# Altium integrated library STM32H7_PCI_CARD.IntLib: 56 symbols
Pins are listed as number, name and electrical type; pins without a type are passive.

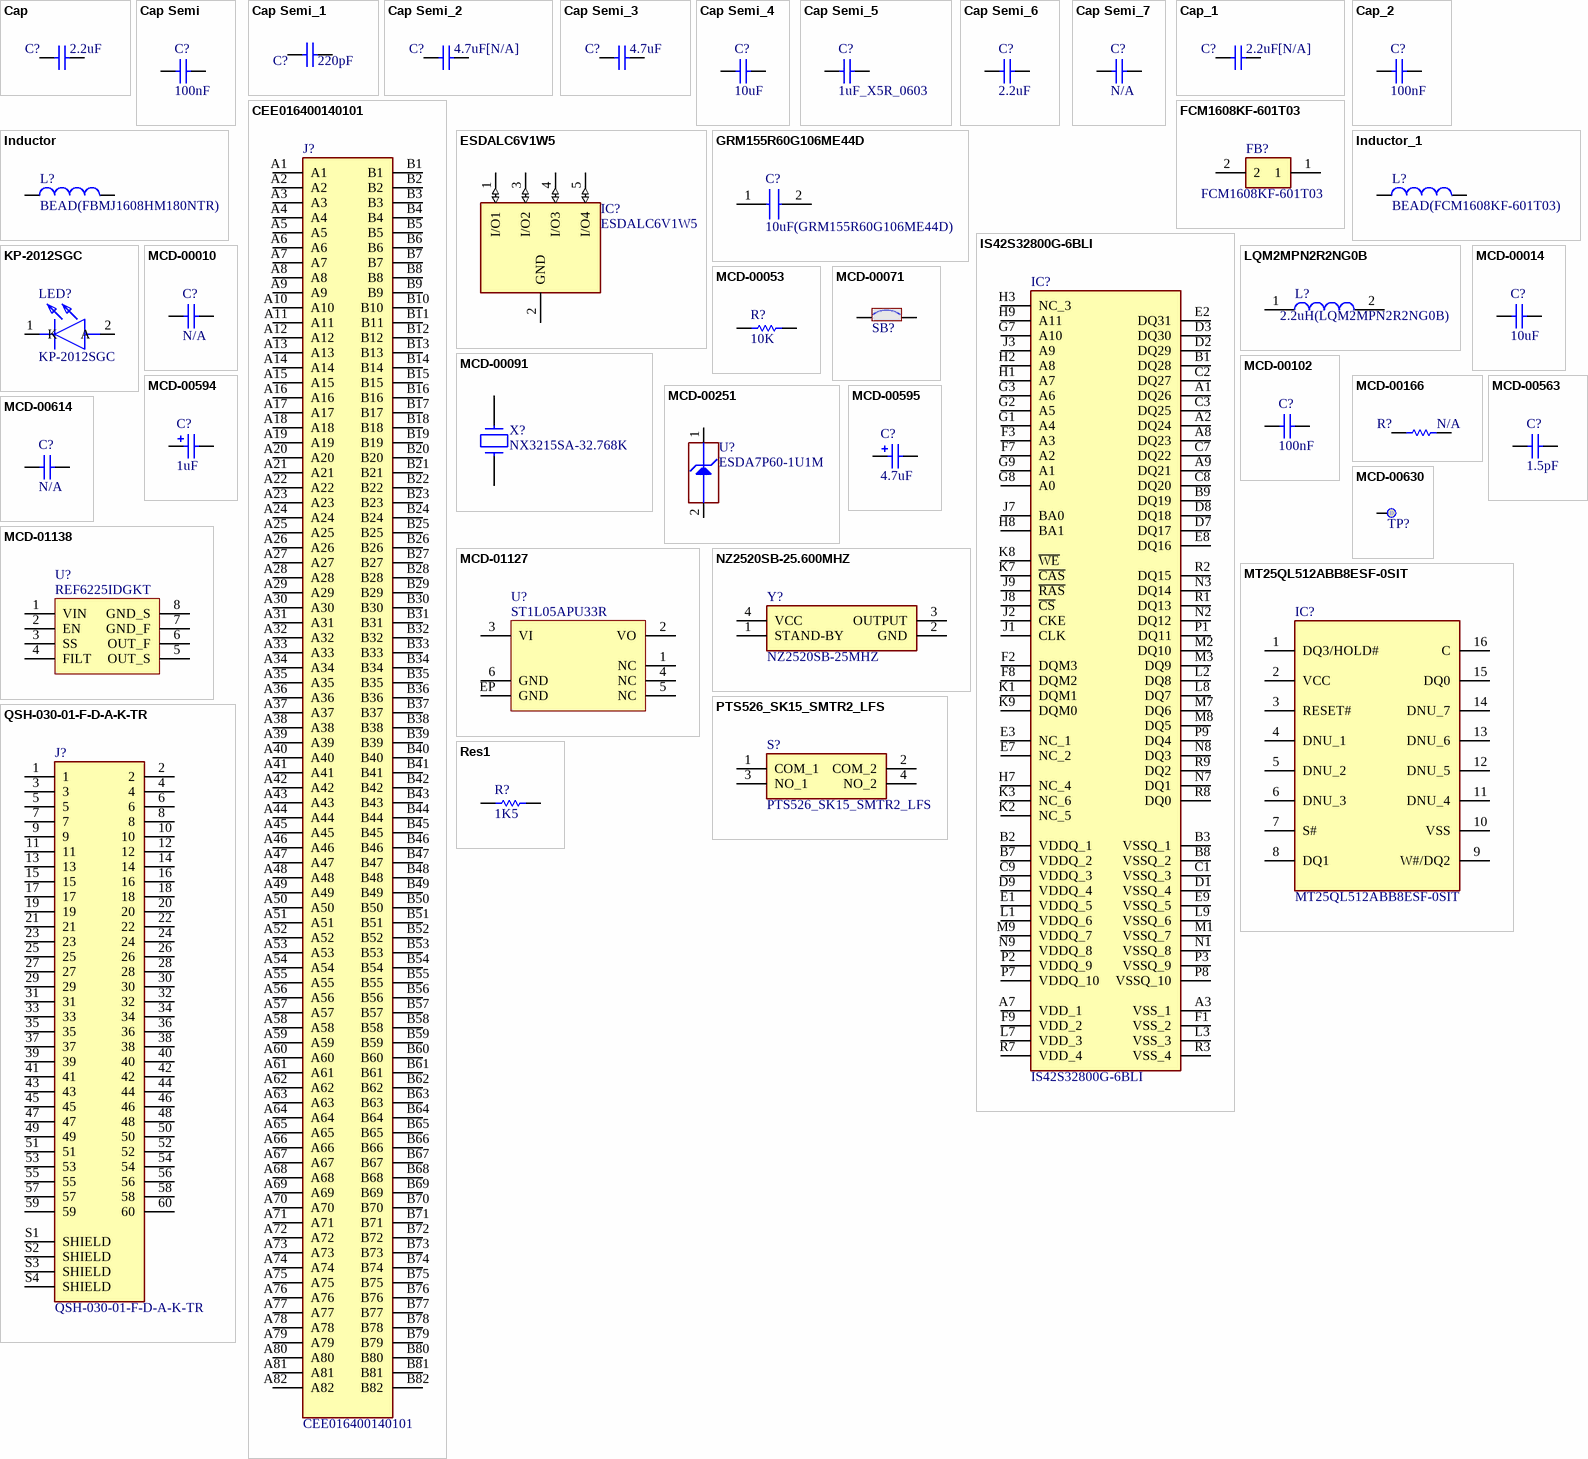
[diagram p0: symbols Cap to Res1]

## Cap
designator C?, comment 2.2uF
Capacitor; Value: 10nF; Published: 8-Jun-2000; Revision: July-2002: Re-released for DXP Platform.; Publisher: Altium Limited
simulation model CAP (Capacitor)
signal-integrity model Cap
footprint 0603C (Footprint not found)
footprint 1206C (Footprint not found)
footprint C0603
pins: 1, 2

## Cap Semi
designator C?, comment 100nF
Capacitor (Semiconductor SIM Model); Published: 8-Jun-2000; LatestRevisionDate: 29-May-2009; LatestRevisionNote: IPC-7351 Footprint Added.; PackageReference: C1206; Publisher: Altium Limited; PackageDescription: Chip Capacitor; Value: 100nF
footprint C1206 (Chip Capacitor, Body 3.2x1.6mm, IPC High Density)
footprint 0402 (Chip Capacitor, Body 1.0x0.5mm, IPC High Density)
footprint C2512 (Chip Capacitor, Body 2.54x1.27mm, IPC High Density)
footprint 1608[0603] (Chip Capacitor, Body 1.6x0.8mm, IPC High Density)
footprint C1210 (Chip Capacitor, Body 3.2x2.5mm, IPC High Density)
simulation model CAP (Semiconductor Capacitor)
signal-integrity model Cap Semi
footprint C0402
footprint C0603
footprint C0402
pins: 1, 2

## Cap Semi_1
designator C?, comment 220pF
Capacitor (Semiconductor SIM Model); Published: 8-Jun-2000; LatestRevisionDate: 29-May-2009; LatestRevisionNote: IPC-7351 Footprint Added.; PackageReference: C1206; Publisher: Altium Limited; PackageDescription: Chip Capacitor; Value: 220pF
footprint C1206 (Chip Capacitor, Body 3.2x1.6mm, IPC High Density)
footprint 0402 (Chip Capacitor, Body 1.0x0.5mm, IPC High Density)
footprint C2512 (Chip Capacitor, Body 2.54x1.27mm, IPC High Density)
footprint 1608[0603] (Chip Capacitor, Body 1.6x0.8mm, IPC High Density)
footprint C1210 (Chip Capacitor, Body 3.2x2.5mm, IPC High Density)
simulation model CAP (Semiconductor Capacitor)
signal-integrity model Cap Semi
footprint C0402
pins: 1, 2

## Cap Semi_2
designator C?, comment 4.7uF[N/A]
Capacitor (Semiconductor SIM Model); Value: 4.7uF; Published: 8-Jun-2000; LatestRevisionDate: 29-May-2009; LatestRevisionNote: IPC-7351 Footprint Added.; PackageReference: C1206; Publisher: Altium Limited; PackageDescription: Chip Capacitor
footprint C1206 (Chip Capacitor, Body 3.2x1.6mm, IPC High Density)
footprint 0402 (Chip Capacitor, Body 1.0x0.5mm, IPC High Density)
footprint C2512 (Chip Capacitor, Body 2.54x1.27mm, IPC High Density)
footprint 1608[0603] (Chip Capacitor, Body 1.6x0.8mm, IPC High Density)
footprint C1210 (Chip Capacitor, Body 3.2x2.5mm, IPC High Density)
simulation model CAP (Semiconductor Capacitor)
signal-integrity model Cap Semi
footprint C0402
pins: 1, 2

## Cap Semi_3
designator C?, comment 4.7uF
Capacitor (Semiconductor SIM Model); Published: 8-Jun-2000; LatestRevisionDate: 29-May-2009; LatestRevisionNote: IPC-7351 Footprint Added.; PackageReference: C1206; Publisher: Altium Limited; PackageDescription: Chip Capacitor; Value: 4.7uF
footprint C1206 (Chip Capacitor, Body 3.2x1.6mm, IPC High Density)
footprint 0402 (Chip Capacitor, Body 1.0x0.5mm, IPC High Density)
footprint C2512 (Chip Capacitor, Body 2.54x1.27mm, IPC High Density)
footprint 1608[0603] (Chip Capacitor, Body 1.6x0.8mm, IPC High Density)
footprint C1210 (Chip Capacitor, Body 3.2x2.5mm, IPC High Density)
simulation model CAP (Semiconductor Capacitor)
signal-integrity model Cap Semi
footprint C0402
pins: 1, 2

## Cap Semi_4
designator C?, comment 10uF
Capacitor (Semiconductor SIM Model); Published: 8-Jun-2000; LatestRevisionDate: 29-May-2009; LatestRevisionNote: IPC-7351 Footprint Added.; PackageReference: C1206; Publisher: Altium Limited; PackageDescription: Chip Capacitor; Value: 10uF
footprint C1206 (Chip Capacitor, Body 3.2x1.6mm, IPC High Density)
footprint 0402 (Chip Capacitor, Body 1.0x0.5mm, IPC High Density)
footprint C2512 (Chip Capacitor, Body 2.54x1.27mm, IPC High Density)
footprint 1608[0603] (Chip Capacitor, Body 1.6x0.8mm, IPC High Density)
footprint C1210 (Chip Capacitor, Body 3.2x2.5mm, IPC High Density)
simulation model CAP (Semiconductor Capacitor)
signal-integrity model Cap Semi
footprint 0603 (Chip Inductor, Body 0.6x0.3mm, IPC High Density)
footprint C0603
pins: 1, 2

## Cap Semi_5
designator C?, comment 1uF_X5R_0603
Capacitor (Semiconductor SIM Model); Value: 1uF; Published: 8-Jun-2000; LatestRevisionDate: 29-May-2009; LatestRevisionNote: IPC-7351 Footprint Added.; PackageReference: C1206; Publisher: Altium Limited; PackageDescription: Chip Capacitor
footprint C1206 (Chip Capacitor, Body 3.2x1.6mm, IPC High Density)
footprint 0402 (Chip Capacitor, Body 1.0x0.5mm, IPC High Density)
footprint C2512 (Chip Capacitor, Body 2.54x1.27mm, IPC High Density)
footprint 1608[0603] (Chip Capacitor, Body 1.6x0.8mm, IPC High Density)
footprint C1210 (Chip Capacitor, Body 3.2x2.5mm, IPC High Density)
simulation model CAP (Semiconductor Capacitor)
signal-integrity model Cap Semi
footprint 0603 (Chip Inductor, Body 0.6x0.3mm, IPC High Density)
footprint C0603
pins: 1, 2

## Cap Semi_6
designator C?, comment 2.2uF
Capacitor (Semiconductor SIM Model); Published: 8-Jun-2000; LatestRevisionDate: 29-May-2009; LatestRevisionNote: IPC-7351 Footprint Added.; PackageReference: C1206; Publisher: Altium Limited; PackageDescription: Chip Capacitor; Value: 2.2uF
footprint C1206 (Chip Capacitor, Body 3.2x1.6mm, IPC High Density)
footprint 0402 (Chip Capacitor, Body 1.0x0.5mm, IPC High Density)
footprint C2512 (Chip Capacitor, Body 2.54x1.27mm, IPC High Density)
footprint 1608[0603] (Chip Capacitor, Body 1.6x0.8mm, IPC High Density)
footprint C1210 (Chip Capacitor, Body 3.2x2.5mm, IPC High Density)
simulation model CAP (Semiconductor Capacitor)
signal-integrity model Cap Semi
footprint C0603
pins: 1, 2

## Cap Semi_7
designator C?, comment N/A
Capacitor (Semiconductor SIM Model); Published: 8-Jun-2000; LatestRevisionDate: 29-May-2009; LatestRevisionNote: IPC-7351 Footprint Added.; PackageReference: C1206; Publisher: Altium Limited; PackageDescription: Chip Capacitor; Value: N/A
footprint C1206 (Chip Capacitor, Body 3.2x1.6mm, IPC High Density)
footprint 0402 (Chip Capacitor, Body 1.0x0.5mm, IPC High Density)
footprint C2512 (Chip Capacitor, Body 2.54x1.27mm, IPC High Density)
footprint 1608[0603] (Chip Capacitor, Body 1.6x0.8mm, IPC High Density)
footprint C1210 (Chip Capacitor, Body 3.2x2.5mm, IPC High Density)
simulation model CAP (Semiconductor Capacitor)
signal-integrity model Cap Semi
pins: 1, 2

## Cap_1
designator C?, comment 2.2uF[N/A]
Capacitor; Value: 10nF; Fitted: NO; Published: 8-Jun-2000; Revision: July-2002: Re-released for DXP Platform.; Publisher: Altium Limited
simulation model CAP (Capacitor)
signal-integrity model Cap
footprint 0603C (Footprint not found)
footprint 1206C (Footprint not found)
footprint C0603
pins: 1, 2

## Cap_2
designator C?, comment 100nF
Capacitor; Value: 10nF; Published: 8-Jun-2000; Revision: July-2002: Re-released for DXP Platform.; Publisher: Altium Limited
simulation model CAP (Capacitor)
signal-integrity model Cap
footprint 0603 (Footprint not found)
footprint 0402C
footprint 0603C
footprint 1608[0603]
footprint C0603
pins: 1, 2

## CEE016400140101
designator J?
Connector; Manufacturer_Name: Amphenol; Datasheet Link: https://cdn.amphenol-icc.com/media/wysiwyg/files/drawing/ccee0xxx001401yx.pdf; Height: 10.45mm; Manufacturer_Part_Number: CEE016400140101; Mouser Part Number: 523-CEE016400140101; Mouser Price/Stock: https://www.mouser.com/Search/Refine.aspx?Keyword=523-CEE016400140101
footprint CEE016400140101-M
pins: A1, A2, A3, A4, A5, A6, A7, A8, A9, A10, A11, A12, A13, A14, A15, A16, A17, A18, A19, A20, A21, A22, A23, A24, A25, A26, A27, A28, A29, A30, A31, A32, A33, A34, A35, A36, A37, A38, A39, A40, A41, A42, A43, A44, A45, A46, A47, A48, A49, A50, A51, A52, A53, A54, A55, A56, A57, A58, A59, A60, A61, A62, A63, A64, A65, A66, A67, A68, A69, A70, A71, A72, A73, A74, A75, A76, A77, A78, A79, A80, A81, A82, B1, B2, B3, B4, B5, B6, B7, B8, B9, B10, B11, B12, B13, B14, B15, B16, B17, B18, B19, B20, B21, B22, B23, B24, B25, B26, B27, B28, B29, B30, B31, B32, B33, B34, B35, B36, B37, B38, B39, B40, B41, B42, B43, B44, B45, B46, B47, B48, B49, B50, B51, B52, B53, B54, B55, B56, B57, B58, B59, B60, B61, B62, B63, B64, B65, B66, B67, B68, B69, B70, B71, B72, B73, B74, B75, B76, B77, B78, B79, B80, B81, B82

## ESDALC6V1W5
designator IC?
Integrated Circuit; Manufacturer_Name: STMicroelectronics; Allied_Number: 70389952; Datasheet Link: http://www.st.com/web/en/resource/technical/document/datasheet/CD00002946.pdf; Height: 1.1mm; Manufacturer_Part_Number: ESDALC6V1W5; Mouser Part Number: 511-ESDALC6V1W5; Mouser Price/Stock: https://www.mouser.com/Search/Refine.aspx?Keyword=511-ESDALC6V1W5; RS Part Number: 0250044P; RS Price/Stock: http://uk.rs-online.com/web/p/products/0250044P; Allied Price/Stock: http://www.alliedelec.com/stmicroelectronics-esdalc6v1w5/70389952/
footprint SOT65P210X110-5N
pins: 1 I/O1 (io), 2 GND (power), 3 I/O2 (io), 4 I/O3 (io), 5 I/O4 (io)

## FCM1608KF-601T03
designator FB?
Ferrite Bead; Manufacturer_Name: TAI-TECH; Datasheet Link: https://www.tai-tech.com.tw/_upload/files/FCM1608-Series.pdf; Height: 0.95mm; Manufacturer_Part_Number: FCM1608KF-601T03
footprint BEADC1608X95N
pins: 1, 2

## GRM155R60G106ME44D
designator C?, comment 10uF(GRM155R60G106ME44D)
Capacitor; Manufacturer_Name: Murata Electronics; Datasheet Link: http://www.murata.com/~/media/webrenewal/support/library/catalog/products/capacitor/mlcc/c02e.pdf; Height: 0.55mm; Manufacturer_Part_Number: GRM155R60G106ME44D; Mouser Part Number: 81-GRM155R60G106ME4D; Mouser Price/Stock: https://www.mouser.com/Search/Refine.aspx?Keyword=81-GRM155R60G106ME4D; RS Part Number: 1726711P; RS Price/Stock: http://uk.rs-online.com/web/p/products/1726711P
footprint CAPC1005X55N
footprint C0402
pins: 1, 2

## Inductor
designator L?, comment BEAD(FBMJ1608HM180NTR)
Inductor; Value: 100uH; Published: 8-Jun-2000; Revision: July-2002: Re-released for DXP Platform.; Publisher: Altium Limited
footprint 0603 (Footprint not found)
footprint 0603C
footprint 0603L
footprint BEADC1608X100N
footprint L0603
pins: 1, 2

## Inductor_1
designator L?, comment BEAD(FCM1608KF-601T03)
Inductor; Value: 100uH; Published: 8-Jun-2000; Revision: July-2002: Re-released for DXP Platform.; Publisher: Altium Limited
footprint 0603 (Footprint not found)
footprint 0603C
footprint 0603L
footprint BEADC1608X95N
footprint L0603
pins: 1, 2

## IS42S32800G-6BLI
designator IC?
Integrated Circuit; Manufacturer_Name: Integrated Silicon Solution Inc.; Datasheet Link: https://www.mouser.com/datasheet/2/198/42-45S32800G-258457.pdf; Height: 1.2mm; Manufacturer_Part_Number: IS42S32800G-6BLI; Mouser Part Number: 870-IS42S32800G-6BLI; Mouser Price/Stock: https://www.mouser.com/Search/Refine.aspx?Keyword=870-IS42S32800G-6BLI
footprint BGA90C80P9X15_800X1300X120
pins: A1 DQ26, A2 DQ24, A3 VSS_1, A7 VDD_1, A8 DQ23, A9 DQ21, B1 DQ28, B2 VDDQ_1, B3 VSSQ_1, B7 VDDQ_2, B8 VSSQ_2, B9 DQ19, C1 VSSQ_3, C2 DQ27, C3 DQ25, C7 DQ22, C8 DQ20, C9 VDDQ_3, D1 VSSQ_4, D2 DQ29, D3 DQ30, D7 DQ17, D8 DQ18, D9 VDDQ_4, E1 VDDQ_5, E2 DQ31, E3 NC_1, E7 NC_2, E8 DQ16, E9 VSSQ_5, F1 VSS_2, F2 DQM3, F3 A3, F7 A2, F8 DQM2, F9 VDD_2, G1 A4, G2 A5, G3 A6, G7 A10, G8 A0, G9 A1, H1 A7, H2 A8, H3 NC_3, H7 NC_4, H8 BA1, H9 A11, J1 CLK, J2 CKE, J3 A9, J7 BA0, J8 ~{CS}, J9 ~{RAS}, K1 DQM1, K2 NC_5, K3 NC_6, K7 ~{CAS}, K8 ~{WE}, K9 DQM0, L1 VDDQ_6, L2 DQ8, L3 VSS_3, L7 VDD_3, L8 DQ7, L9 VSSQ_6, M1 VSSQ_7, M2 DQ10, M3 DQ9, M7 DQ6, M8 DQ5, M9 VDDQ_7, N1 VSSQ_8, N2 DQ12, N3 DQ14, N7 DQ1, N8 DQ3, N9 VDDQ_8, P1 DQ11, P2 VDDQ_9, P3 VSSQ_9, P7 VDDQ_10, P8 VSSQ_10, P9 DQ4, R1 DQ13, R2 DQ15, R3 VSS_4, R7 VDD_4, R8 DQ0, R9 DQ2

## KP-2012SGC
designator LED?
LED; Manufacturer_Name: Kingbright; Datasheet Link: http://my.rs-online.com/webdocs/032f/0900766b8032fa8b.pdf; Height: 1.1mm; Manufacturer_Part_Number: KP-2012SGC; Mouser Part Number: N/A; Mouser Price/Stock: https://www.mouser.com/Search/Refine.aspx?Keyword=N%2FA; RS Part Number: 4663807P; RS Price/Stock: http://uk.rs-online.com/web/p/products/4663807P
footprint LEDC2012X110N
pins: 1 K, 2 A

## LQM2MPN2R2NG0B
designator L?, comment 2.2uH(LQM2MPN2R2NG0B)
Inductor; Manufacturer_Name: Murata Electronics; Datasheet Link: https://psearch.en.murata.com/inductor/product/LQM2MPN2R2NG0%23.html; Height: 1mm; Manufacturer_Part_Number: LQM2MPN2R2NG0B; Mouser Part Number: N/A; Mouser Price/Stock: https://www.mouser.com/Search/Refine.aspx?Keyword=N%2FA
footprint INDC2016X100N
footprint IND_2016_MURATA_LQM2MPN2R2NG0
pins: 1, 2

## MCD-00010
designator C?, comment N/A
Capacitor, MLCC, 1uF, 16V, X5R, 10%, 0603, T=0,8mm; Internal_Part_Number: MCD-00010; Manufacturer_Part_Number: CC0603KRX5R7BB105; Manufacturer: YAGEO; Provided_By: Subcon; Initial_Board_Reference: mb1274; Value: 1uF; Status: Released; Part_Type: Capacitor; Package: C0603; ComponentLink1Description: Yageo_Capacitor_X5R-series.pdf; ComponentLink1URL: http://tunmcdsvn.tun.st.com/Component_Datasheet_Library/Trunk/Capacitors/Yageo_Capacitor_X5R-series.pdf; ECCN_US: n/a; ECCN_EU: n/a
footprint C0603
pins: 1, 2

## MCD-00014
designator C?, comment value 10uF  (hidden comment: Capacitor)
Capacitor, MLCC, 10uF, 25V, X5R, 10%, 0805, T=0,85mm; Internal_Part_Number: MCD-00014; Manufacturer_Part_Number: CC0805KRX5R8BB106; Manufacturer: YAGEO; Provided_By: Subcon; Initial_Board_Reference: mb1274; ECCN_US: n/a; ECCN_EU: n/a; ComponentLink1Description: Yageo_Capacitor_X5R-series.pdf; Status: Released; Part_Type: Capacitor; Package: C0805; ComponentLink1URL: http://tunmcdsvn.tun.st.com/Component_Datasheet_Library/Trunk/Capacitors/Yageo_Capacitor_X5R-series.pdf
footprint C0805
footprint C0805
pins: 1, 2

## MCD-00053
designator R?, comment value 10K  (hidden comment: Resistor)
Resistor,10K,0402,1%,1/16W; Internal_Part_Number: MCD-00053; Manufacturer_Part_Number: RC0402FR-0710KL; Manufacturer: YAGEO; Provided_By: subcon; Initial_Board_Reference: MB1274; Status: Released; Part_Type: Resistor; Package: R0402; ComponentLink1Description: Yageo_Resistor_RC0402-series.pdf; ComponentLink1URL: http://tunmcdsvn.tun.st.com/Component_Datasheet_Library/Trunk/Resistors/Yageo_Resistor_RC0402-series; ECCN_US: n/a; ECCN_EU: n/a
footprint R0402
pins: 1, 2

## MCD-00071
designator SB?, comment SB_ON  (value not drawn)
Solder Bridge ON; Internal_Part_Number: MCD-00071; Part_Type: Mechanical; Manufacturer_Part_Number: RC0603JR-070RL; Manufacturer: YAGEO; Provided_By: SUBCO; Status: Released; ComponentLink1Description: Datasheet; Package: SB0603; ComponentLink1URL: http://tunmcdsvn.tun.st.com/Component_Datasheet_Library/Trunk/Resistors/Yageo_Resistor_RC0603-series; ECCN_US: n/a; ECCN_EU: n/a
footprint SOLDER-BRIDGE_R0603-0R
footprint SOLDER-BRIDGE_R0402-0R
footprint JP2_SMD
footprint SB_0603
pins: 1, 2

## MCD-00091
designator X?, comment value NX3215SA-32.768K  (hidden comment: XTAL_32K_NX3215SA)
Crystal 32.768kHz, 6pF, -+20PPM, R=50K, SMD; Internal_Part_Number: MCD-00091; Part_Type: Crystal_Osc; Manufacturer_Part_Number: NX3215SA 32.768KHz EXS00A-MU00525; Manufacturer: NDK; ECCN_US: EAR99; ECCN_EU: NEC; Provided_By: STM; Initial_Board_Reference: mb1274; Status: Released; ComponentLink1Description: NDK_Crystal-For-ST_NX3215SA 32.768KHz EXS00A-MU00525 (EXS10B-21238).pdf; ComponentLink1URL: http://tunmcdsvn.tun.st.com/Component_Datasheet_Library/Trunk/Crystal_Osc/NDK_Crystal-For-ST_NX3215SA 32.768KHz EXS00A-MU00525 (EXS10B-21238).pdf
footprint CRY_NX3215SA_2P
pins: 1, 2
2 alternate drawings of the same symbol

## MCD-00102
designator C?, comment value 100nF  (hidden comment: Capacitor)
Capacitor, MLCC, 100nF, 16V, X7R, 10%, 0402, T=0,5mm; Internal_Part_Number: MCD-00102; Manufacturer_Part_Number: CC0402KRX7R7BB104; Manufacturer: YAGEO; Provided_By: Subcon; Initial_Board_Reference: MB1262; Status: Released; Part_Type: Capacitor; Package: C0402; ComponentLink1Description: Yageo_Capacitor_X7R-series.pdf; ComponentLink1URL: http://tunmcdsvn.tun.st.com/Component_Datasheet_Library/Trunk/Capacitors/Yageo_Multilayer_Capacitor_X7R_series_100pF_to_22uF; ECCN_US: n/a; ECCN_EU: n/a
footprint C0402
pins: 1, 2

## MCD-00166
designator R?, comment N/A
Resistor,120K,0402,1%,1/16W; Internal_Part_Number: MCD-00166; Manufacturer_Part_Number: RC0402FR-07120KL; Manufacturer: YAGEO; Provided_By: Subcon; Initial_Board_Reference: MB1264; Value: 120K; Status: Footprint available; Part_Type: Resistor; Package: R0402; ComponentLink1Description: Yageo_Resistor_RC0402-series.pdf; ComponentLink1URL: http://tunmcdsvn.tun.st.com/Component_Datasheet_Library/Trunk/Resistors/Yageo_Resistor_RC0402-series; ECCN_US: n/a; ECCN_EU: n/a
footprint R0402
pins: 1, 2

## MCD-00251
designator U?, comment value ESDA7P60-1U1M  (hidden comment: ESD-TRANSIL)
High power transient voltage suppressor, 7V breakdown; Internal_Part_Number: MCD-00251; Part_Type: IC; Manufacturer: STMICROELECTRONICS; ECCN_US: EAR99; ECCN_EU: NEC; Provided_By: Subcon; Initial_Board_Reference: MB1311; Status: Released; Manufacturer_Part_Number: ESDA7P60-1U1M; ComponentLink1Description: STM_ESD_ESDA7P60-1U1M.pdf; ComponentLink1URL: http://tunmcdsvn.tun.st.com/Component_Datasheet_Library/Trunk/Diodes/STM_ESD_ESDA7P60-1U1M
footprint ESD_QFN2_1P6X1_P125
pins: 1 IO1, 2 GND

## MCD-00563
designator C?, comment value 1.5pF  (hidden comment: Capacitor)
Capacitor, MLCC, 1.5pF, 50V, NPO, +-0.25pF, 0402, T=0,5mm; Internal_Part_Number: MCD-00563; Manufacturer_Part_Number: CC0402CRNPO9BN1R5; Manufacturer: YAGEO; Provided_By: Subcon; Initial_Board_Reference: MB1331; Status: Released; Part_Type: Capacitor; Package: C0402; ComponentLink1Description: Yageo_Capacitor_NP0_16V-to-50V.pdf; ComponentLink1URL: http://tunmcdsvn.tun.st.com/Component_Datasheet_Library/Trunk/Capacitors/Yageo_Capacitor_NP0_16V-to-50V; ECCN_US: n/a; ECCN_EU: n/a
footprint C0402
pins: 1, 2

## MCD-00594
designator C?, comment value 1uF  (hidden comment: Cap_POL_TANA)
Capacitor, Tantalum, 1uF, 35V, +/-10%, 595D case A; Internal_Part_Number: MCD-00594; Manufacturer_Part_Number: 595D105X9035A2T; Manufacturer: VISHAY; Order_Code_RS: 117-404; Provided_By: Subcon; Initial_Board_Reference: MB1331; Revision: July-2002: Re-released for DXP Platform.; Status: Footprint available; Part_Type: Capacitor; ComponentLink1Description: VISHAY_CAPACITOR_TANTALUM_595D.pdf; ComponentLink1URL: http://tunmcdsvn.tun.st.com/Component_Datasheet_Library/Trunk/Capacitors/VISHAY_CAPACITOR_TANTALUM_595D; Order_Code_Digikey: 595D105X9035A2T-ND; Order_Code_Farnell: 1166819
footprint CPOL_VISHAY_TANTAL-595D_1407_H220
pins: 1, 2

## MCD-00595
designator C?, comment value 4.7uF  (hidden comment: Cap_POL_TANA)
Capacitor, Tantalum, 4.7uF, 16V, +/-10%, 595D case A; Internal_Part_Number: MCD-00595; Manufacturer_Part_Number: 595D475X9016A2T; Manufacturer: VISHAY; Order_Code_RS: 117-303; Provided_By: Subcon; Initial_Board_Reference: MB1331; Revision: July-2002: Re-released for DXP Platform.; Status: Footprint available; Part_Type: Capacitor; ComponentLink1Description: VISHAY_CAPACITOR_TANTALUM_595D.pdf; ComponentLink1URL: http://tunmcdsvn.tun.st.com/Component_Datasheet_Library/Trunk/Capacitors/VISHAY_CAPACITOR_TANTALUM_595D; Order_Code_Digikey: 595D475X9016A2T-ND; Order_Code_Farnell: 1166805
footprint CPOL_VISHAY_TANTAL-595D_1407_H220
pins: 1, 2

## MCD-00614
designator C?, comment N/A
Capacitor, MLCC, 22uF, 16V, 1210, X7R, 20%, T=2,5mm, ESR 2mohm@410KHz; Internal_Part_Number: MCD-00614; Manufacturer_Part_Number: GCM32ER71C226ME19; Manufacturer: MURATA; Provided_By: Subcon; Initial_Board_Reference: MB1331; Value: 22uF; Status: Footprint available; Part_Type: Capacitor; Package: C1210; ComponentLink1Description: Murata_22uF_1210_GCM32ER71C226ME19.pdf; ComponentLink1URL: http://tunmcdsvn.tun.st.com/Component_Datasheet_Library/Trunk/Capacitors/Murata_Capacitor_GC_series
footprint C1210 (Chip Capacitor, Body 3.2x2.5mm, IPC High Density)
pins: 1, 2

## MCD-00630
designator TP?, comment Test Point  (value not drawn)  (no BOM)
Test Point 0.3mm; Internal_Part_Number: MCD-00630; Part_Type: Mechanical; Initial_Board_Reference: MB1264; Status: Released; ECCN_US: n/a; ECCN_EU: n/a; Provided_By: n/a
footprint TP_SMD_0-3MM
pins: 1

## MCD-01127
designator U?, comment ST1L05APU33R
IC REG LDO 3.3V 1.3A 6DFN; Internal_Part_Number: MCD-01127; Manufacturer: STMICROELECTRONICS; ECCN_US: EAR99; ECCN_EU: NEC; Provided_By: Subcon; Initial_Board_Reference: MB1381; Value: ST1L05APU33R; Status: Footprint available; Part_Type: IC; Manufacturer_Part_Number: ST1L05APU33R; Package: DFN6; ComponentLink1Description: STM_LDO_ST1L05CPU33R.pdf; ComponentLink1URL: http://tunmcdsvn.tun.st.com/Component_Datasheet_Library/Trunk/IC/STM_LDO_ST1L05CPU33R/STM_LDO_ST1L05CPU33R.pdf
footprint ICC_DFN6-EPAD_3X3_P095
pins: 1 NC, 2 VO, 3 VI, 4 NC, 5 NC, 6 GND, EP GND

## MCD-01138
designator U?  value REF6225IDGKT
IC VREF SERIES 2.5V 8VSSOP; Internal_Part_Number: MCD-01138; Manufacturer: TI; Provided_By: Subcon; Initial_Board_Reference: MB1381; Status: Footprint available; Part_Type: IC; Manufacturer_Part_Number: REF6225IDGKT; Package: VSSOP8; ComponentLink1Description: TI_REF_REF6225IDGKT; ComponentLink1URL: http://tunmcdsvn.tun.st.com/Component_Datasheet_Library/Trunk/IC/TI_REF_REF6225IDGKT/TI_REF_REF6225IDGKT.pdf; ECCN_US: N/A; ECCN_EU: N/A
footprint ICC_VSSOP8_DGK_S-PDSO-G8_3X3_P065
pins: 1 VIN, 2 EN, 3 SS, 4 FILT, 5 OUT_S, 6 OUT_F, 7 GND_F, 8 GND_S

## MT25QL512ABB8ESF-0SIT
designator IC?
Integrated Circuit; Manufacturer_Name: Micron; Datasheet Link: https://www.micron.com/~/media/documents/products/data-sheet/nor-flash/serial-nor/mt25q/die-rev-b/mt25q_qlkt_l_512_abb_0.pdf; Height: 2.65mm; Manufacturer_Part_Number: MT25QL512ABB8ESF-0SIT; Mouser Part Number: 340-278183-TRAY; Mouser Price/Stock: https://www.mouser.com/Search/Refine.aspx?Keyword=340-278183-TRAY
footprint SOIC127P1032X265-16N
pins: 1 DQ3/HOLD#, 2 VCC, 3 RESET#, 4 DNU_1, 5 DNU_2, 6 DNU_3, 7 S#, 8 DQ1, 9 W#/DQ2, 10 VSS, 11 DNU_4, 12 DNU_5, 13 DNU_6, 14 DNU_7, 15 DQ0, 16 C

## NZ2520SB-25.600MHZ
designator Y?, comment NZ2520SB-25MHZ
Crystal or Oscillator; Manufacturer_Name: NDK; Manufacturer_Part_Number: NZ2520SB-25.600MHZ; Datasheet Link: https://media.digikey.com/PDF/Data%20Sheets/NDK%20PDFs/NZ2520SB.pdf; Height: 0.9mm; Mouser Part Number: N/A; Mouser Price/Stock: https://www.mouser.com/Search/Refine.aspx?Keyword=N%2FA
footprint NZ2520SB25600MHZ
footprint OSC_NDK_NZ2520SB_4P
pins: 1 STAND-BY, 2 GND, 3 OUTPUT, 4 VCC

## PTS526_SK15_SMTR2_LFS
designator S?
Switch; Manufacturer_Name: C & K COMPONENTS; Manufacturer_Part_Number: PTS526 SK15 SMTR2 LFS; Datasheet Link: https://www.ckswitches.com/media/2780/pts526.pdf; Height: 1.65mm; Mouser Part Number: 611-PTS526SK15SMR2L; Mouser Price/Stock: https://www.mouser.com/Search/Refine.aspx?Keyword=611-PTS526SK15SMR2L
footprint PTS526SK15SMTR2LFS
pins: 1 COM_1, 2 COM_2, 3 NO_1, 4 NO_2

## QSH-030-01-F-D-A-K-TR
designator J?
60 Position Connector Receptacle, Center Strip Contacts Surface Mount Gold; MF: Samtec; SnapEDA_Link: https://www.snapeda.com/parts/QSH-030-01-F-D-A-K-TR/Samtec%20Inc./view-part/1154263/?ref=snap; Digi-Key_Part_Number: SAM13214CT-ND; Value: *; MP: QSH-030-01-F-D-A-K-TR; Digi-Key_Purchase_URL: https://www.digikey.com/product-detail/en/samtec-inc/QSH-030-01-F-D-A-K-TR/SAM13214CT-ND/8827969?utm_source=snapeda&utm_medium=aggregator&utm_campaign=symbol; Package: None
footprint SAMTEC_QSH-030-01-F-D-A-K-TR
pins: 1, 2, 3, 4, 5, 6, 7, 8, 9, 10, 11, 12, 13, 14, 15, 16, 17, 18, 19, 20, 21, 22, 23, 24, 25, 26, 27, 28, 29, 30, 31, 32, 33, 34, 35, 36, 37, 38, 39, 40, 41, 42, 43, 44, 45, 46, 47, 48, 49, 50, 51, 52, 53, 54, 55, 56, 57, 58, 59, 60, S1 SHIELD, S2 SHIELD, S3 SHIELD, S4 SHIELD

## Res1
designator R?, comment 1K5
Resistor; Value: 1K; Published: 8-Jun-2000; Revision: July-2002: Re-released for DXP Platform.; Publisher: Altium Limited
footprint AXIAL-0.3 (Resistor; 2 Leads)
simulation model RESISTOR (Resistor)
signal-integrity model Res
footprint 0603
footprint 0603R
footprint 1608[0603]
footprint R0603
footprint R0603
pins: 1, 2
1 alternate drawing of the same symbol

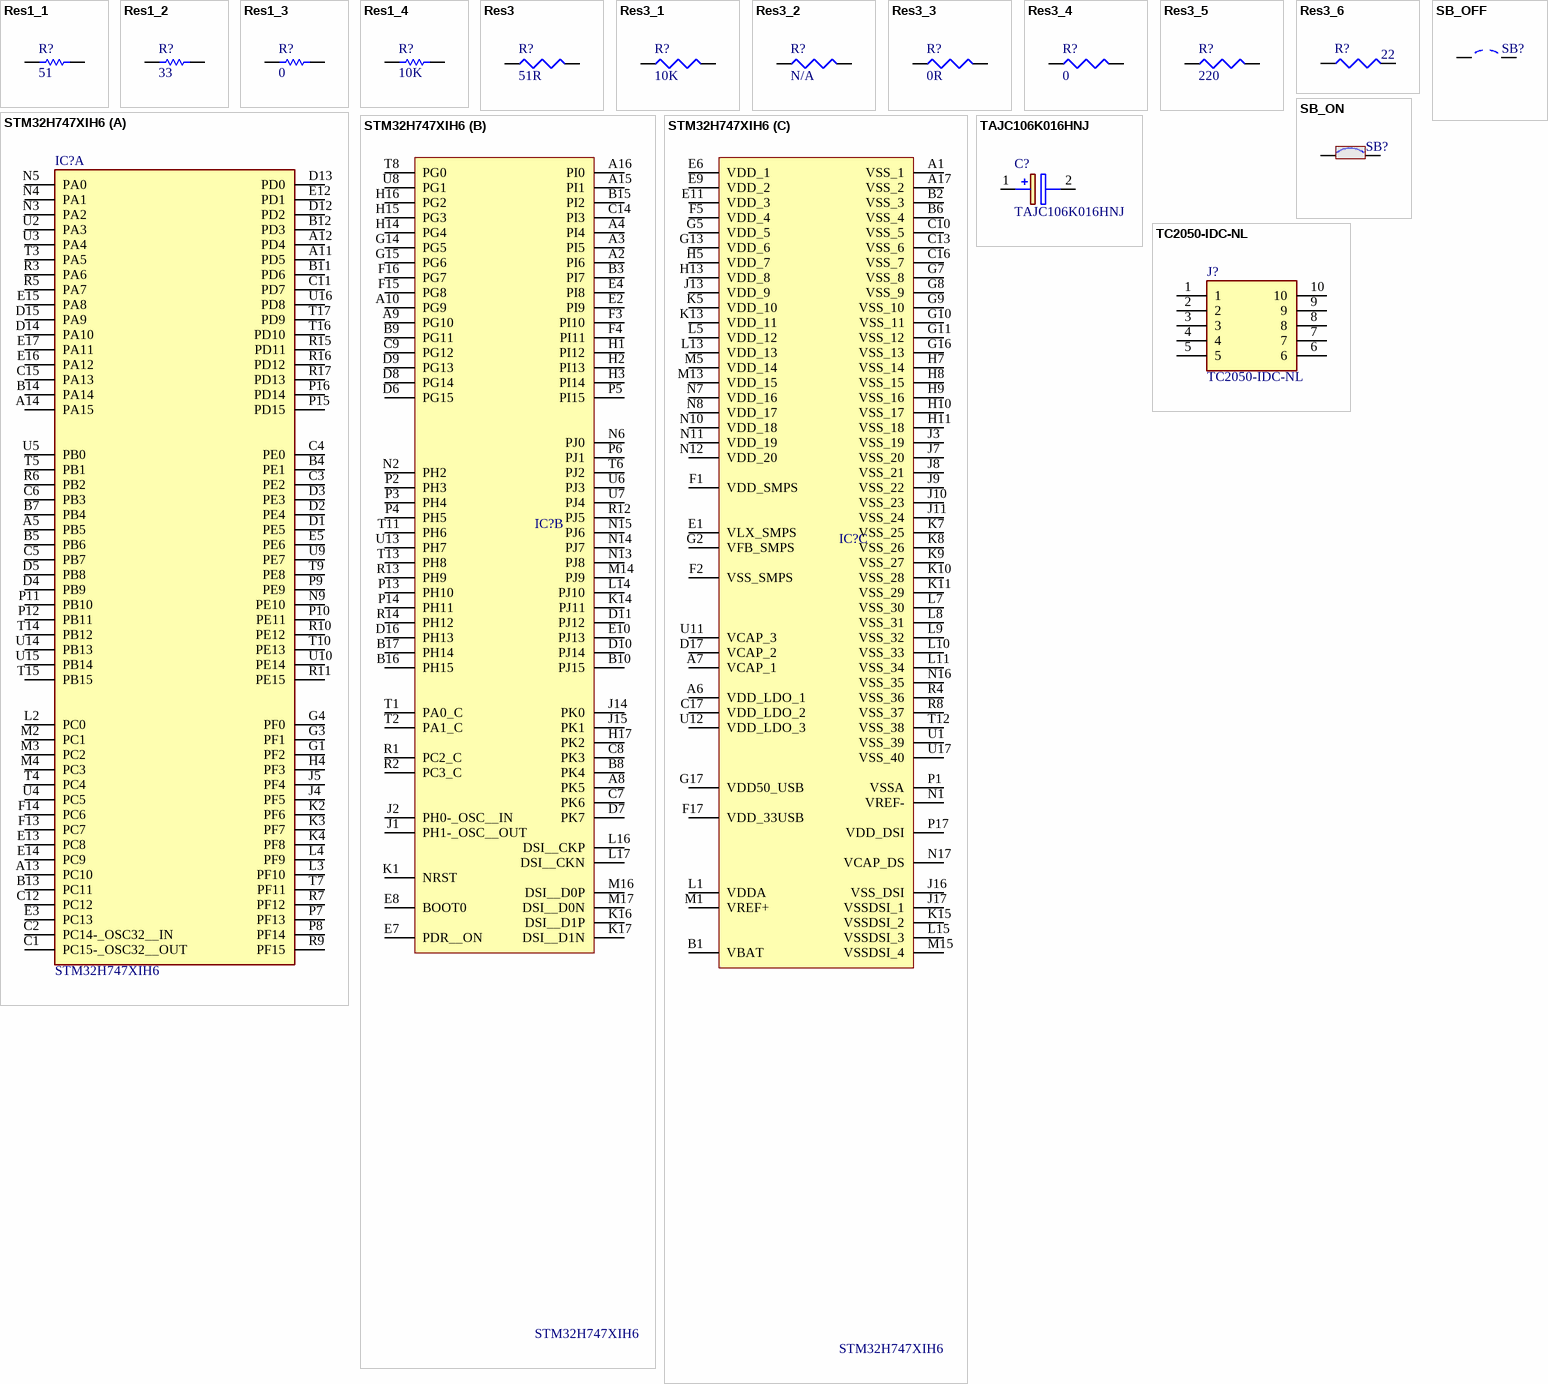
[diagram p1: symbols Res1_1 to TC2050-IDC-NL]

## Res1_1
designator R?, comment 51
Resistor; Value: 1K; Published: 8-Jun-2000; Revision: July-2002: Re-released for DXP Platform.; Publisher: Altium Limited
footprint AXIAL-0.3 (Resistor; 2 Leads)
simulation model RESISTOR (Resistor)
signal-integrity model Res
footprint 0603
footprint 0603R
footprint 1608[0603]
footprint R0603
footprint R0402
pins: 1, 2
1 alternate drawing of the same symbol

## Res1_2
designator R?, comment 33
Resistor; Value: 1K; Published: 8-Jun-2000; Revision: July-2002: Re-released for DXP Platform.; Publisher: Altium Limited
footprint AXIAL-0.3 (Resistor; 2 Leads)
simulation model RESISTOR (Resistor)
signal-integrity model Res
footprint 0603
footprint 0603R
footprint 0402R
footprint 0402
footprint R0402
pins: 1, 2
1 alternate drawing of the same symbol

## Res1_3
designator R?, comment 0
Resistor; Value: 1K; Published: 8-Jun-2000; Revision: July-2002: Re-released for DXP Platform.; Publisher: Altium Limited
footprint AXIAL-0.3 (Resistor; 2 Leads)
simulation model RESISTOR (Resistor)
signal-integrity model Res
footprint 0603
footprint 0603R
footprint 0402R
footprint 0402
footprint R0402
footprint R0603
pins: 1, 2
1 alternate drawing of the same symbol

## Res1_4
designator R?, comment 10K
Resistor; Value: 1K; Published: 8-Jun-2000; Revision: July-2002: Re-released for DXP Platform.; Publisher: Altium Limited
footprint AXIAL-0.3 (Resistor; 2 Leads)
simulation model RESISTOR (Resistor)
signal-integrity model Res
footprint 0603
footprint 0402R
footprint 0603R
footprint 1608[0603]
footprint R0402
footprint R0603
pins: 1, 2
1 alternate drawing of the same symbol

## Res3
designator R?, comment 51R
Resistor; Published: 8-Jun-2000; LatestRevisionDate: 29-May-2009; LatestRevisionNote: IPC-7351 Footprint Added.; PackageReference: J1-0603; Publisher: Altium Limited; PackageDescription: Chip Resistor; Value: 51R
footprint J1-0603 (Chip Resistor, Body 1.6x0.8mm, IPC High Density)
footprint 14-1210 (Chip Resistor, Body 3.2x2.5mm, IPC High Density)
footprint 12Z-2010 (Chip Resistor, Body 5.0x2.5mm, IPC High Density)
footprint RESC6332 (Chip Resistor, Body 6.3x3.2mm, IPC High Density)
simulation model RESISTOR (Resistor)
signal-integrity model Res
footprint R0603
footprint R0402
pins: 1, 2

## Res3_1
designator R?, comment 10K
Resistor; Published: 8-Jun-2000; LatestRevisionDate: 29-May-2009; LatestRevisionNote: IPC-7351 Footprint Added.; PackageReference: J1-0603; Publisher: Altium Limited; PackageDescription: Chip Resistor; Value: 10K
footprint J1-0603 (Chip Resistor, Body 1.6x0.8mm, IPC High Density)
footprint 14-1210 (Chip Resistor, Body 3.2x2.5mm, IPC High Density)
footprint 12Z-2010 (Chip Resistor, Body 5.0x2.5mm, IPC High Density)
footprint RESC6332 (Chip Resistor, Body 6.3x3.2mm, IPC High Density)
simulation model RESISTOR (Resistor)
signal-integrity model Res
footprint R0603
footprint R0402
pins: 1, 2

## Res3_2
designator R?, comment N/A
Resistor; Published: 8-Jun-2000; LatestRevisionDate: 29-May-2009; LatestRevisionNote: IPC-7351 Footprint Added.; PackageReference: J1-0603; Publisher: Altium Limited; PackageDescription: Chip Resistor; Value: N/A
footprint J1-0603 (Chip Resistor, Body 1.6x0.8mm, IPC High Density)
footprint 14-1210 (Chip Resistor, Body 3.2x2.5mm, IPC High Density)
footprint 12Z-2010 (Chip Resistor, Body 5.0x2.5mm, IPC High Density)
footprint RESC6332 (Chip Resistor, Body 6.3x3.2mm, IPC High Density)
simulation model RESISTOR (Resistor)
signal-integrity model Res
footprint R0603
footprint R0603
pins: 1, 2

## Res3_3
designator R?, comment 0R
Resistor; Published: 8-Jun-2000; LatestRevisionDate: 29-May-2009; LatestRevisionNote: IPC-7351 Footprint Added.; PackageReference: J1-0603; Publisher: Altium Limited; PackageDescription: Chip Resistor; Value: 0R
footprint J1-0603 (Chip Resistor, Body 1.6x0.8mm, IPC High Density)
footprint 14-1210 (Chip Resistor, Body 3.2x2.5mm, IPC High Density)
footprint 12Z-2010 (Chip Resistor, Body 5.0x2.5mm, IPC High Density)
footprint RESC6332 (Chip Resistor, Body 6.3x3.2mm, IPC High Density)
simulation model RESISTOR (Resistor)
signal-integrity model Res
footprint R0603
footprint R0603
pins: 1, 2

## Res3_4
designator R?, comment 0
Resistor; Published: 8-Jun-2000; LatestRevisionDate: 29-May-2009; LatestRevisionNote: IPC-7351 Footprint Added.; PackageReference: J1-0603; Publisher: Altium Limited; PackageDescription: Chip Resistor; Value: 0
footprint J1-0603 (Chip Resistor, Body 1.6x0.8mm, IPC High Density)
footprint 14-1210 (Chip Resistor, Body 3.2x2.5mm, IPC High Density)
footprint 12Z-2010 (Chip Resistor, Body 5.0x2.5mm, IPC High Density)
footprint RESC6332 (Chip Resistor, Body 6.3x3.2mm, IPC High Density)
simulation model RESISTOR (Resistor)
signal-integrity model Res
footprint R0603
footprint R0603
pins: 1, 2

## Res3_5
designator R?, comment 220
Resistor; Published: 8-Jun-2000; LatestRevisionDate: 29-May-2009; LatestRevisionNote: IPC-7351 Footprint Added.; PackageReference: J1-0603; Publisher: Altium Limited; PackageDescription: Chip Resistor; Value: 220
footprint J1-0603 (Chip Resistor, Body 1.6x0.8mm, IPC High Density)
footprint 14-1210 (Chip Resistor, Body 3.2x2.5mm, IPC High Density)
footprint 12Z-2010 (Chip Resistor, Body 5.0x2.5mm, IPC High Density)
footprint RESC6332 (Chip Resistor, Body 6.3x3.2mm, IPC High Density)
simulation model RESISTOR (Resistor)
signal-integrity model Res
footprint R0603
footprint R0603
pins: 1, 2

## Res3_6
designator R?, comment 22
Resistor; Published: 8-Jun-2000; LatestRevisionDate: 29-May-2009; LatestRevisionNote: IPC-7351 Footprint Added.; PackageReference: J1-0603; Publisher: Altium Limited; PackageDescription: Chip Resistor; Value: 22
footprint J1-0603 (Chip Resistor, Body 1.6x0.8mm, IPC High Density)
footprint 14-1210 (Chip Resistor, Body 3.2x2.5mm, IPC High Density)
footprint 12Z-2010 (Chip Resistor, Body 5.0x2.5mm, IPC High Density)
footprint RESC6332 (Chip Resistor, Body 6.3x3.2mm, IPC High Density)
simulation model RESISTOR (Resistor)
signal-integrity model Res
pins: 1, 2

## SB_OFF
designator SB?, comment Solder Bridge OFF  (value not drawn)
Fitted: NO; Ordered by: Subcon; Revision: July-2002: Re-released for DXP Platform.; ECCN_US/EU: n/a
footprint SPST-2 (Circuit Breaker; 2 Leads)
footprint SB_0603 (Footprint not found)
pins: 1, 2

## SB_ON
designator SB?, comment Solder Bridge ON  (value not drawn)
Fitted: YES; Ordered by: Subcon; Revision: July-2002: Re-released for DXP Platform.; ECCN_US/EU: n/a
footprint SPST-2 (Circuit Breaker; 2 Leads)
footprint SB_0603 (Footprint not found)
pins: 1, 2

## STM32H747XIH6
designator IC?
Integrated Circuit; Manufacturer_Name: STMicroelectronics; Datasheet Link: https://www.st.com/en/microcontrollers-microprocessors/stm32h747xi.html; Height: 1.1mm; Manufacturer_Part_Number: STM32H747XIH6; Mouser Part Number: 511-STM32H747XIH6; Mouser Price/Stock: https://www.mouser.com/Search/Refine.aspx?Keyword=511-STM32H747XIH6
footprint BGA265C80P17X17_1400X1400X110
part A pins: A5 PB5, A11 PD5, A12 PD4, A13 PC10, A14 PA15, B4 PE1, B5 PB6, B7 PB4, B11 PD6, B12 PD3, B13 PC11, B14 PA14, C1 PC15-_OSC32__OUT, C2 PC14-_OSC32__IN, C3 PE2, C4 PE0, C5 PB7, C6 PB3, C11 PD7, C12 PC12, C15 PA13, D1 PE5, D2 PE4, D3 PE3, D4 PB9, D5 PB8, D12 PD2, D13 PD0, D14 PA10, D15 PA9, E3 PC13, E5 PE6, E12 PD1, E13 PC8, E14 PC9, E15 PA8, E16 PA12, E17 PA11, F13 PC7, F14 PC6, G1 PF2, G3 PF1, G4 PF0, H4 PF3, J4 PF5, J5 PF4, K2 PF6, K3 PF7, K4 PF8, L2 PC0, L3 PF10, L4 PF9, M2 PC1, M3 PC2, M4 PC3, N3 PA2, N4 PA1, N5 PA0, N9 PE10, P7 PF13, P8 PF14, P9 PE9, P10 PE11, P11 PB10, P12 PB11, P15 PD15, P16 PD14, R3 PA6, R5 PA7, R6 PB2, R7 PF12, R9 PF15, R10 PE12, R11 PE15, R15 PD11, R16 PD12, R17 PD13, T3 PA5, T4 PC4, T5 PB1, T7 PF11, T9 PE8, T10 PE13, T14 PB12, T15 PB15, T16 PD10, T17 PD9, U2 PA3, U3 PA4, U4 PC5, U5 PB0, U9 PE7, U10 PE14, U14 PB13, U15 PB14, U16 PD8
part B pins: A2 PI6, A3 PI5, A4 PI4, A8 PK5, A9 PG10, A10 PG9, A15 PI1, A16 PI0, B3 PI7, B8 PK4, B9 PG11, B10 PJ15, B15 PI2, B16 PH15, B17 PH14, C7 PK6, C8 PK3, C9 PG12, C14 PI3, D6 PG15, D7 PK7, D8 PG14, D9 PG13, D10 PJ14, D11 PJ12, D16 PH13, E2 PI9, E4 PI8, E7 PDR__ON, E8 BOOT0, E10 PJ13, F3 PI10, F4 PI11, F15 PG8, F16 PG7, G14 PG5, G15 PG6, H1 PI12, H2 PI13, H3 PI14, H14 PG4, H15 PG3, H16 PG2, H17 PK2, J1 PH1-_OSC__OUT, J2 PH0-_OSC__IN, J14 PK0, J15 PK1, K1 NRST, K14 PJ11, K16 DSI__D1P, K17 DSI__D1N, L14 PJ10, L16 DSI__CKP, L17 DSI__CKN, M14 PJ9, M16 DSI__D0P, M17 DSI__D0N, N2 PH2, N6 PJ0, N13 PJ8, N14 PJ7, N15 PJ6, P2 PH3, P3 PH4, P4 PH5, P5 PI15, P6 PJ1, P13 PH10, P14 PH11, R1 PC2_C, R2 PC3_C, R12 PJ5, R13 PH9, R14 PH12, T1 PA0_C, T2 PA1_C, T6 PJ2, T8 PG0, T11 PH6, T13 PH8, U6 PJ3, U7 PJ4, U8 PG1, U13 PH7
part C pins: A1 VSS_1, A6 VDD_LDO_1, A7 VCAP_1, A17 VSS_2, B1 VBAT, B2 VSS_3, B6 VSS_4, C10 VSS_5, C13 VSS_6, C16 VSS_7, C17 VDD_LDO_2, D17 VCAP_2, E1 VLX_SMPS, E6 VDD_1, E9 VDD_2, E11 VDD_3, F1 VDD_SMPS, F2 VSS_SMPS, F5 VDD_4, F17 VDD_33USB, G2 VFB_SMPS, G5 VDD_5, G7 VSS_8, G8 VSS_9, G9 VSS_10, G10 VSS_11, G11 VSS_12, G13 VDD_6, G16 VSS_13, G17 VDD50_USB, H5 VDD_7, H7 VSS_14, H8 VSS_15, H9 VSS_16, H10 VSS_17, H11 VSS_18, H13 VDD_8, J3 VSS_19, J7 VSS_20, J8 VSS_21, J9 VSS_22, J10 VSS_23, J11 VSS_24, J13 VDD_9, J16 VSS_DSI, J17 VSSDSI_1, K5 VDD_10, K7 VSS_25, K8 VSS_26, K9 VSS_27, K10 VSS_28, K11 VSS_29, K13 VDD_11, K15 VSSDSI_2, L1 VDDA, L5 VDD_12, L7 VSS_30, L8 VSS_31, L9 VSS_32, L10 VSS_33, L11 VSS_34, L13 VDD_13, L15 VSSDSI_3, M1 VREF+, M5 VDD_14, M13 VDD_15, M15 VSSDSI_4, N1 VREF-, N7 VDD_16, N8 VDD_17, N10 VDD_18, N11 VDD_19, N12 VDD_20, N16 VSS_35, N17 VCAP_DS, P1 VSSA, P17 VDD_DSI, R4 VSS_36, R8 VSS_37, T12 VSS_38, U1 VSS_39, U11 VCAP_3, U12 VDD_LDO_3, U17 VSS_40

## TAJC106K016HNJ
designator C?
Capacitor Polarised; Manufacturer_Name: AVX; Datasheet Link: http://datasheets.avx.com/TAJ.pdf; Height: 2.8mm; Manufacturer_Part_Number: TAJC106K016HNJ
footprint CAPPM6032X280N
pins: 1 +, 2 -

## TC2050-IDC-NL
designator J?
Plug-Of-Nailsâ„¢ Adapter Cable; MF: Tag-Connect LLC; MP: TC2050-IDC-NL; Availability: Unavailable; Package: None; Value: *; Price: None; SnapEDA_Link: https://www.snapeda.com/parts/TC2050-IDC-NL/Tag-Connect%20LLC/view-part/134534/?ref=snap
footprint CON_TAG-C_TC2050-IDC-NL
pins: 1, 2, 3, 4, 5, 6, 7, 8, 9, 10